# EAGLE library part 74XX595 (library logic-supply)
74xx595 8-bit shift register
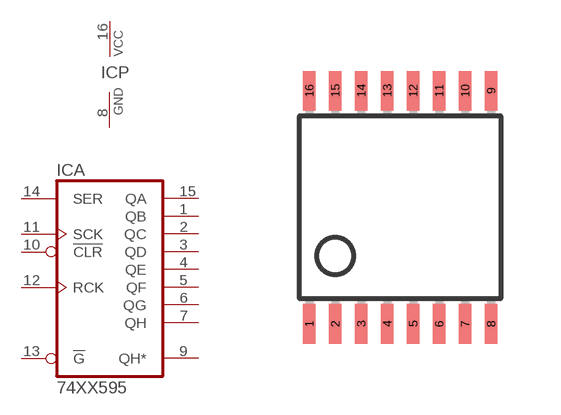
[diagram p38: symbol with the pads of TSSOP16; footprint TSSOP16]

Designator prefix IC; gates A=74XX595 P=PWR

## 74XX595T  [TSSOP16]
1  A:QB  hiz
2  A:QC  hiz
3  A:QD  hiz
4  A:QE  hiz
5  A:QF  hiz
6  A:QG  hiz
7  A:QH  hiz
8  P:GND  pwr
9  A:QH*  hiz
10  A:!CLR  in
11  A:SCK  in
12  A:RCK  in
13  A:!G  in
14  A:SER  in
15  A:QA  hiz
16  P:VCC  pwr

## Footprint TSSOP16 (pad centres in mm)
smd 0.305 x 0.991: 1 -2.275,-2.918; 2 -1.625,-2.918; 3 -0.975,-2.918; 4 -0.325,-2.918; 5 0.325,-2.918; 6 0.975,-2.918; 7 1.625,-2.918; 8 2.275,-2.918; 9 2.275,2.918; 10 1.625,2.918; 11 0.975,2.918; 12 0.325,2.918; 13 -0.325,2.918; 14 -0.975,2.918; 15 -1.625,2.918; 16 -2.275,2.918